# Altium schematic symbol library 8-SW_lib.SchLib: 12 symbols
Pins are listed as number, name and electrical type; pins without a type are passive.

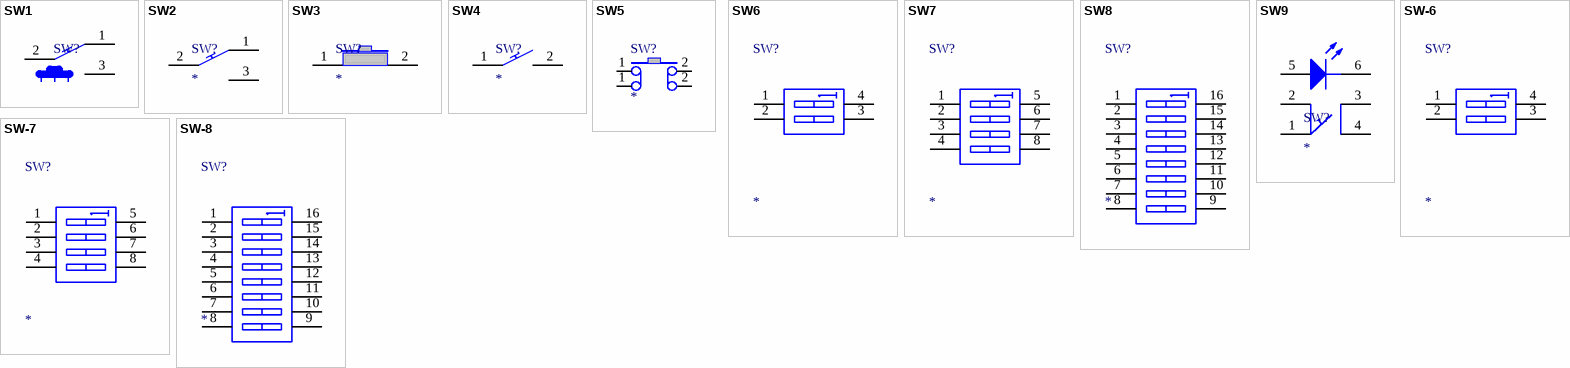
[diagram p0: symbols SW1 to SW-8]

## SW1
designator SW?  (value not drawn)
2档位-PCB滑片开关
footprint SW_PB5
pins: 1, 2, 3

## SW2
designator SW?
2档位-钮子开关/船型开关
pins: 1, 2, 3

## SW3
designator SW?
1档位-贴片式自复性按键
footprint SW2_SMD
pins: 1, 2

## SW4
designator SW?
1档位-钮子开关/船型开关
pins: 1, 2

## SW5
designator SW?
四脚一档位自恢复性按键
footprint SW-S2-4
pins: 1 T1, 1 T1, 2 T2, 2 T2

## SW6
designator SW?
2位拨码开关
footprint SW-DIP4
pins: 1 A1, 2 A2, 3 A3, 4 A4

## SW7
designator SW?
4位拨码开关
footprint SW_DIP8
pins: 1 A1, 2 A2, 3 A3, 4 A4, 5 A5, 6 A6, 7 A7, 8 A8

## SW8
designator SW?
8位拨码开关
footprint SO-16
footprint SW_DIP16
pins: 1 A1, 2 A2, 3 A3, 4 A4, 5 A5, 6 A6, 7 A7, 8 A8, 9 B8, 10 B7, 11 B6, 12 B5, 13 B4, 14 B3, 15 B2, 16 B1

## SW9
designator SW?
带灯按钮开关
pins: 1, 2, 3, 4, 5, 6

## SW-6
designator SW?
2位拨码开关
footprint SW_DIP4
pins: 1 A1, 2 A2, 3 A3, 4 A4

## SW-7
designator SW?
4位拨码开关
footprint SW_SMD8 (贴片拨码开关)
footprint SW_DIP8
pins: 1 A1, 2 A2, 3 A3, 4 A4, 5 A5, 6 A6, 7 A7, 8 A8

## SW-8
designator SW?
8位拨码开关
footprint SO-16
pins: 1 A1, 2 A2, 3 A3, 4 A4, 5 A5, 6 A6, 7 A7, 8 A8, 9 B8, 10 B7, 11 B6, 12 B5, 13 B4, 14 B3, 15 B2, 16 B1